# EAGLE library part PIC18F6XK80 (library OpenMotics)
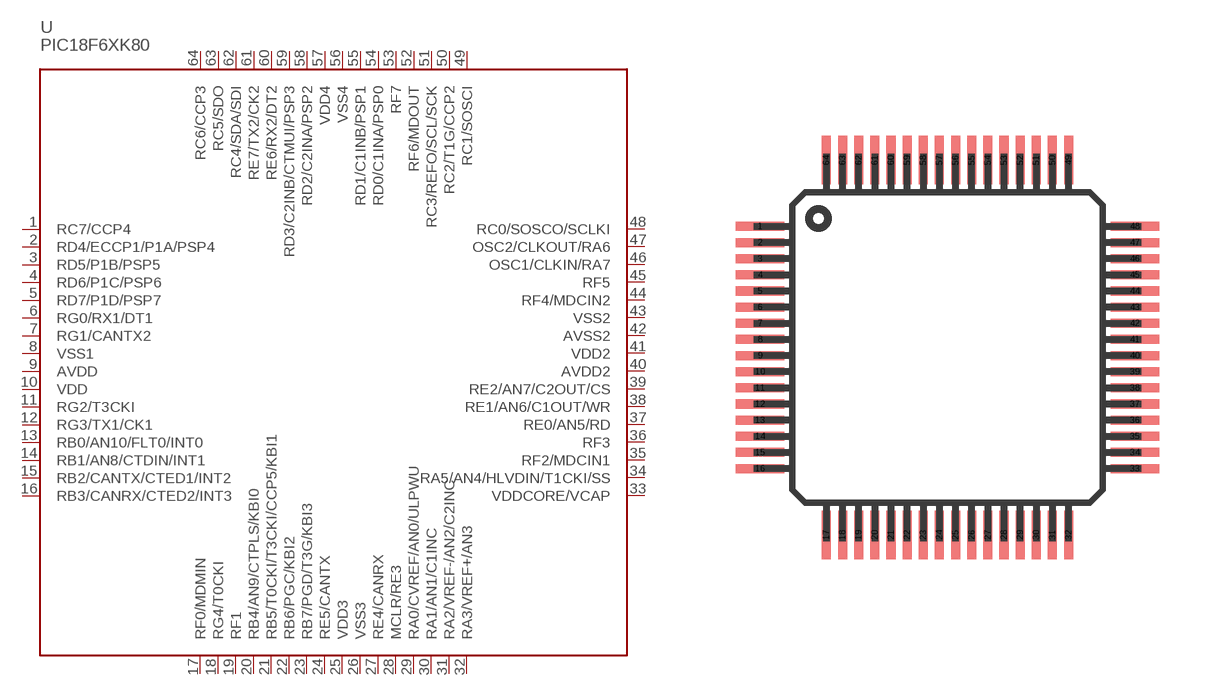
[diagram p28: symbol with the pads of TQFP_64; footprint TQFP_64]

Designator prefix U

## PIC18F6XK80  [TQFP_64]
1  RC7/CCP4
2  RD4/ECCP1/P1A/PSP4
3  RD5/P1B/PSP5
4  RD6/P1C/PSP6
5  RD7/P1D/PSP7
6  RG0/RX1/DT1
7  RG1/CANTX2  in
8  VSS1
9  AVDD  pwr
10  VDD  pwr
11  RG2/T3CKI
12  RG3/TX1/CK1
13  RB0/AN10/FLT0/INT0
14  RB1/AN8/CTDIN/INT1
15  RB2/CANTX/CTED1/INT2
16  RB3/CANRX/CTED2/INT3
17  RF0/MDMIN
18  RG4/T0CKI  in
19  RF1  pwr
20  RB4/AN9/CTPLS/KBI0  pwr
21  RB5/T0CKI/T3CKI/CCP5/KBI1
22  RB6/PGC/KBI2
23  RB7/PGD/T3G/KBI3
24  RE5/CANTX
25  VDD3  pwr
26  VSS3  pwr
27  RE4/CANRX
28  MCLR/RE3
29  RA0/CVREF/AN0/ULPWU
30  RA1/AN1/C1INC
31  RA2/VREF-/AN2/C2INC
32  RA3/VREF+/AN3
33  VDDCORE/VCAP
34  RA5/AN4/HLVDIN/T1CKI/SS
35  RF2/MDCIN1
36  RF3
37  RE0/AN5/RD
38  RE1/AN6/C1OUT/WR  pwr
39  RE2/AN7/C2OUT/CS  in
40  AVDD2  out
41  VDD2  pwr
42  AVSS2
43  VSS2
44  RF4/MDCIN2
45  RF5
46  OSC1/CLKIN/RA7
47  OSC2/CLKOUT/RA6
48  RC0/SOSCO/SCLKI
49  RC1/SOSCI
50  RC2/T1G/CCP2
51  RC3/REFO/SCL/SCK
52  RF6/MDOUT
53  RF7
54  RD0/C1INA/PSP0
55  RD1/C1INB/PSP1
56  VSS4  pwr
57  VDD4  pwr
58  RD2/C2INA/PSP2
59  RD3/C2INB/CTMUI/PSP3
60  RE6/RX2/DT2
61  RE7/TX2/CK2
62  RC4/SDA/SDI
63  RC5/SDO
64  RC6/CCP3

## Footprint TQFP_64 (pad centres in mm)
smd 1.5 x 0.28: 1 -5.8,3.75; 2 -5.8,3.25; 3 -5.8,2.75; 4 -5.8,2.25; 5 -5.8,1.75; 6 -5.8,1.25; 7 -5.8,0.75; 8 -5.8,0.25; 9 -5.8,-0.25; 10 -5.8,-0.75; 11 -5.8,-1.25; 12 -5.8,-1.75; 13 -5.8,-2.25; 14 -5.8,-2.75; 15 -5.8,-3.25; 16 -5.8,-3.75; 33 5.8,-3.75; 34 5.8,-3.25; 35 5.8,-2.75; 36 5.8,-2.25; 37 5.8,-1.75; 38 5.8,-1.25; 39 5.8,-0.75; 40 5.8,-0.25; 41 5.8,0.25; 42 5.8,0.75; 43 5.8,1.25; 44 5.8,1.75; 45 5.8,2.25; 46 5.8,2.75; 47 5.8,3.25; 48 5.8,3.75
smd 0.28 x 1.5: 17 -3.75,-5.8; 18 -3.25,-5.8; 19 -2.75,-5.8; 20 -2.25,-5.8; 21 -1.75,-5.8; 22 -1.25,-5.8; 23 -0.75,-5.8; 24 -0.25,-5.8; 25 0.25,-5.8; 26 0.75,-5.8; 27 1.25,-5.8; 28 1.75,-5.8; 29 2.25,-5.8; 30 2.75,-5.8; 31 3.25,-5.8; 32 3.75,-5.8; 49 3.75,5.8; 50 3.25,5.8; 51 2.75,5.8; 52 2.25,5.8; 53 1.75,5.8; 54 1.25,5.8; 55 0.75,5.8; 56 0.25,5.8; 57 -0.25,5.8; 58 -0.75,5.8; 59 -1.25,5.8; 60 -1.75,5.8; 61 -2.25,5.8; 62 -2.75,5.8; 63 -3.25,5.8; 64 -3.75,5.8